# Altium integrated library PreAMP.IntLib: 21 symbols
Pins are listed as number, name and electrical type; pins without a type are passive.

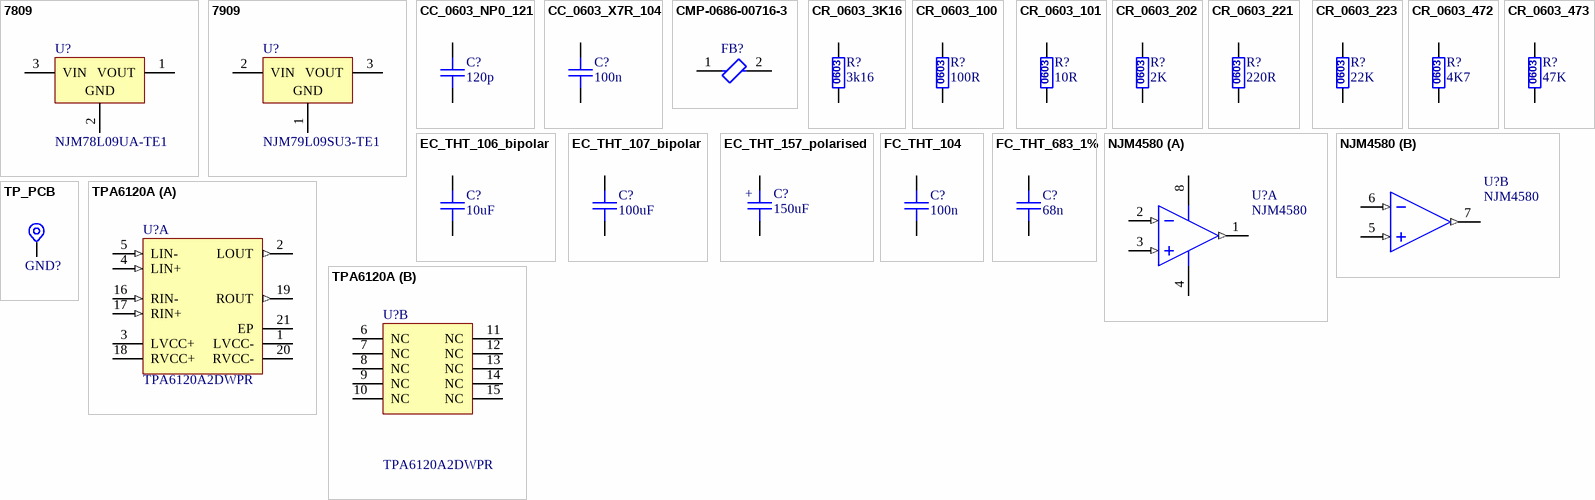
[diagram p0: symbols 7809 to TPA6120A]

## 7809
designator U?, comment NJM78L09UA-TE1
Positive Voltage Regulator, 9V, 4-Pin SOT-89, Tape and Reel; Manufacturer: Nisshinbo Micro Devices; Manufacturer Part Number: L78L12ACUTR; DatasheetVersion: 1/02/2011; PackageDescription: 3-Pin SOT-89 Package 1.5 mm Pitch, 4.1 mm Lead Span; ComponentLink2Description: Datasheet; ComponentLink1Description: Manufacturer URL; PackageVersion: 2011; PackageReference: SOT-89; ComponentLink1URL: https://www.nisshinbo-microdevices.co.jp/en/; ComponentLink2URL: https://cz.mouser.com/datasheet/2/294/NJM78L00_E-1917471.pdf
footprint SOT-89_N (SOT89, 3-Leads, Body 4.5x2.4 mm, Pitch 1.5mm, Lead Span 4.1mm, IPC Medium Density)
footprint SOT-89_M (SOT89, 3-Leads, Body 4.5x2.4 mm, Pitch 1.5mm, Lead Span 4.1mm, IPC Low Density)
footprint SOT-89_L (SOT89, 3-Leads, Body 4.5x2.4 mm, Pitch 1.5mm, Lead Span 4.1mm, IPC High Density)
pins: 1 VOUT (power), 2 GND (power), 3 VIN (power)

## 7909
designator U?, comment NJM79L09SU3-TE1
Negative Voltage Regulator, -9V, 4-Pin SOT-89, Tape and Reel; Manufacturer: Nisshinbo Micro Devices; Manufacturer Part Number: L79L12ACUTR; ComponentLink1URL: https://www.nisshinbo-microdevices.co.jp/en/; PackageVersion: 2011; PackageReference: SOT-89; ComponentLink2Description: Datasheet; PackageDescription: 3-Pin SOT-89 Package 1.5 mm Pitch, 4.1 mm Lead Span; ComponentLink1Description: Manufacturer URL; DatasheetVersion: 1/07/2009; ComponentLink2URL: https://cz.mouser.com/datasheet/2/294/NJM79L00S_E-1859990.pdf
footprint SOT-89_N (SOT89, 3-Leads, Body 4.5x2.4 mm, Pitch 1.5mm, Lead Span 4.1mm, IPC Medium Density)
footprint SOT-89_L (SOT89, 3-Leads, Body 4.5x2.4 mm, Pitch 1.5mm, Lead Span 4.1mm, IPC High Density)
footprint SOT-89_M (SOT89, 3-Leads, Body 4.5x2.4 mm, Pitch 1.5mm, Lead Span 4.1mm, IPC Low Density)
pins: 1 GND (power), 2 VIN (power), 3 VOUT (power)

## CC_0603_NP0_121
designator C?, comment 120p
Ceramic Capacitor NP0; SMD/THD: SMD; Main: Capacitors; Category: Capacitors CERA SMD; Status: A; Value: 120p; ComponentLink1Description: datasheet; Component Type: Capacitors; Supplier 1: Mouser; Supplier 2: Farnell; Supplier Part Number 2: 2581047; Supplier Part Number 1: 80-C0603C121F5G
footprint C0603 (Chip Capacitor 0603)
pins: 1, 2

## CC_0603_X7R_104
designator C?, comment 100n
Ceramic Capacitor X7R; Part Number: 100n/50V X7R C0603; SMD/THD: SMD; Main: Capacitors; Status: A; Value: 100n; Category: Capacitors CERA SMD; Manufacturer Part Number: 100n/50V X7R C0603; Component Type: Capacitors; Supplier 1: Mouser; Supplier 2: Farnell; Supplier Part Number 1: 581-06035C104K4Z2A; Supplier Part Number 2: 1833843
footprint C0603 (Chip Capacitor 0603)
pins: 1, 2

## CMP-0686-00716-3
designator FB?, comment BLM21AG121SN1D  (value not drawn)
FERRITE BEAD 120 OHM 0805 1LN; Manufacturer: Murata; Number of Lines: 1; DC Resistance-Max: 100mR; Material: Steel; Max DC Current: 200mA; Shielding: Unshielded; Test Frequency: 100MHz; Impedance: 120R; Current Rating: 800mA; Max Current Rating: 1A; Resistance: 150mR; Tolerance: 25%; Width: 1.25mm; Number of Circuits: 1; Military Standard: Not; Height: 0.85mm; Series: BLM21A; Min Operating Temperature: -55°C; DC Resistance (DCR): 100mR; Termination: SMD/SMT; Core Material: Ferrite; REACH SVHC: No SVHC; Radiation Hardening: No; Max Operating Temperature: 125°C; Number of Pins: 2; Case/Package: 0805; Case Code (Imperial): 0805; Frequency: 100MHz; Depth: 1.25mm; Length: 2mm; DC Current: 200mA; Lead Free: Lead Free; Case Code (Metric): 2012; Package Quantity: 1; Packaging: Tape and Reel; Manufacturer Part Number: BLM21AG121SN1D
footprint FP-BLM21-0_2-t0_85-e0_5-IPC_A
footprint FP-BLM21-0_2-t0_85-e0_5-MFG
footprint FP-BLM21-0_2-t0_85-e0_5-IPC_B
footprint FP-BLM21-0_2-t0_85-e0_5-IPC_C
pins: 1, 2

## CR_0603_3K16
designator R?, comment 3k16
Resistor 1%, 0.1W, 75V; SMD/THD: SMD; Main: Resistors; Status: A; Category: Resistors SMD; Component Type: Resistors; Supplier 1: Mouser; Supplier 2: Digi-Key; Supplier Part Number 2: P20027CT-ND; Supplier Part Number 1: 667-ERJ-PB3B3161V; Value: 3k16
footprint R0603 (Chip Resistor 0603)
pins: 1, 2
text: 0603

## CR_0603_100
designator R?, comment 100R
Resistor 1%, 0.1W, 75V; SMD/THD: SMD; Main: Resistors; Status: A; Category: Resistors SMD; Component Type: Resistors; Supplier 1: Mouser; Supplier 2: Farnell; Supplier 3: TME; Supplier Part Number 1: 603-RC0603FR-07100RL; Supplier Part Number 2: 9238360; Supplier Part Number 3: RC0603FR-07100R; Value: 100R
footprint R0603 (Chip Resistor 0603)
pins: 1, 2
text: 0603

## CR_0603_101
designator R?, comment 10R
Resistor 1%, 0.1W, 75V; SMD/THD: SMD; Main: Resistors; Status: A; Category: Resistors SMD; Component Type: Resistors; Supplier 1: Mouser; Supplier 2: Farnell; Supplier 3: Digi-Key; Supplier Part Number 1: 652-CR0603FX-10R0ELF; Supplier Part Number 2: 2321756; Supplier Part Number 3: CR0603-FX-10R0ELFDKR-ND; Value: 10R
footprint R0603 (Chip Resistor 0603)
pins: 1, 2
text: 0603

## CR_0603_202
designator R?, comment 2K
Resistor 1%, 0.1W, 75V; SMD/THD: SMD; Main: Resistors; Status: A; Category: Resistors SMD; Component Type: Resistors; Supplier 1: Mouser; Supplier 2: Farnell; Supplier 3: TME; Supplier Part Number 1: 603-RC0603FR-072KL; Supplier Part Number 2: 3495801; Supplier Part Number 3: RC0603FR-072K; Value: 2K
footprint R0603 (Chip Resistor 0603)
pins: 1, 2
text: 0603

## CR_0603_221
designator R?, comment 220R
Resistor 1%, 0.1W, 75V; SMD/THD: SMD; Main: Resistors; Status: A; Category: Resistors SMD; Component Type: Resistors; Supplier 1: Mouser; Supplier 2: TME; Supplier 3: Digi-Key; Supplier Part Number 1: 603-RC0603FR-07220RL; Supplier Part Number 2: RC0603FR-07220R; Supplier Part Number 3: 311-220HRCT-ND; Value: 220R
footprint R0603 (Chip Resistor 0603)
pins: 1, 2
text: 0603

## CR_0603_223
designator R?, comment 22K
Resistor 1%, 0.1W, 75V; Part Number: 22K R0603; Manufacturer: Vishay; SMD/THD: SMD; Main: Resistors; Status: A; Category: Resistors SMD; Component Type: Resistors; Supplier 1: TME; Supplier 2: Farnell; Supplier 3: Digi-Key; Value: 22K; Supplier Part Number 1: RC0603JR-0722K; Supplier Part Number 2: 9233547; Supplier Part Number 3: 311-22KGRCT-ND
footprint R0603 (Chip Resistor 0603)
pins: 1, 2
text: 0603

## CR_0603_472
designator R?, comment 4K7
Resistor 1%, 0.1W, 75V; SMD/THD: SMD; Main: Resistors; Status: A; Category: Resistors SMD; Component Type: Resistors; Supplier 1: Mouser; Supplier 2: Farnell; Supplier 3: TME; Supplier Part Number 3: RC0603FR-074K7; Supplier Part Number 2: 9238565; Supplier Part Number 1: 603-RC0603FR-074K7L; Value: 4K7
footprint R0603 (Chip Resistor 0603)
pins: 1, 2
text: 0603

## CR_0603_473
designator R?, comment 47K
Resistor 1%, 0.1W, 75V; SMD/THD: SMD; Main: Resistors; Status: A; Category: Resistors SMD; Component Type: Resistors; Supplier 1: Mouser; Supplier 2: Digi-Key; Supplier Part Number 2: YAG2129CT-ND; Supplier Part Number 1: 603-AT0603FRE0747KL; Value: 47K
footprint R0603 (Chip Resistor 0603)
pins: 1, 2
text: 0603

## EC_THT_106_bipolar
designator C?, comment 10uF
MUSE bipolar capacitor; SMD/THD: THT; Value: 10uF/35V; Main: Capacitors; Category: Capacitors THT; Status: A; Component Type: Capacitors; Supplier 1: Mouser; Supplier 2: Digi-Key; Supplier Part Number 2: 493-10846-1-ND; Supplier Part Number 1: 647-UES1V100MEM1TD
footprint UES1V
pins: 1, 2

## EC_THT_107_bipolar
designator C?, comment 100uF
MUSE bipolar capacitor; SMD/THD: THT; Value: 100uF/25V; Main: Capacitors; Category: Capacitors THT; Status: A; Component Type: Capacitors; Supplier 1: Mouser; Supplier 2: Digi-Key; Supplier Part Number 1: 647-UES1E101MPM; Supplier Part Number 2: 493-15025-ND
footprint UES1E
pins: 1, 2

## EC_THT_157_polarised
designator C?, comment 150uF
High temp hybrid capacitor -55/125C; SMD/THD: THT; Value: 150uF/35V; Main: Capacitors; Category: Capacitors THT; Status: A; Component Type: Capacitors; Supplier 1: Mouser; Supplier 2: Digi-Key; Supplier Part Number 2: 35PZE150M8X9-ND; Supplier Part Number 1: 232-35PZE150M8X9
footprint PZF8x9
pins: 1 "plus", 2
text: +

## FC_THT_104
designator C?, comment 100n
Foil Capacitor WIMA MKS 2; SMD/THD: THD; Main: Capacitors; Category: Capacitors THT; Status: A; ComponentLink1Description: datasheet; Component Type: Capacitors; Supplier 1: Mouser; Supplier Part Number 1: 505-MKS2C031001AJI00; Value: 100n
footprint WIMA_MKS_2
pins: 1, 2

## FC_THT_683_1%
designator C?, comment 68n
Foil Capacitor Vishay MKP; SMD/THD: THD; Main: Capacitors; Category: Capacitors THT; Status: A; ComponentLink1Description: datasheet; Component Type: Capacitors; Value: 68n; Supplier 1: Mouser; Supplier 2: Farnell; Supplier Part Number 2: 2528262; Supplier Part Number 1: 75-MKP1837368011
footprint VISHAY_MKP
pins: 1, 2

## NJM4580
designator U?
General Purpose Amplifier; Supplier 1: Mouser; Supplier Part Number 2: 513-NJM4580D
footprint PDIP300-P8 (8-Pin Plastic Dual In-Line Package (PDIP))
part A pins: 1 VOUT (out), 2 VIN- (in), 3 VIN+ (in), 4 VSS (power), 8 VDD (power)
part B pins: 5 VIN+2 (in), 6 VIN-2 (in), 7 VOUT2 (out)

## TP_PCB
designator GND?, comment TP  (value not drawn)  (no BOM)
Test Point; Main: Mechanical; Category: Pads_Pins_Measure_Points; Stock number: --------; Component Type: Mechanical
footprint Pad0.6mm MPoint big (Pad (neosazuje se))
footprint Pad 1mm SMD (Pad (neosazuje se))
pins: 1

## TPA6120A
designator U?, comment TPA6120A2DWPR
High Fidelity Stereo Headphone Amplifier, -40 to 85 degC, 20-pin SOP (DWP20), Green (RoHS & no Sb/Br); Manufacturer: Texas Instruments; Load(Min)(ohms): 16; PSRR(dB): 75; Special Features: Hi-Fi; Supply Min(Min)(Volt): 10; Supply Max(Max)(Volt): 30; Volume Control: Yes; ComponentLink3URL: http://www.ti.com/litv/pdf/mpds032b; ComponentLink2Description: Datasheet; PackageDescription: 20-Pin PowerPAD(TM) Plastic Small-Outline Package, Body 12.825 x 7.52 mm, Pitch 1.27 mm; Mounting Technology: Surface Mount; PackageReference: DWP0020B; DatasheetVersion: SLOS431; Headphone Channels: Stereo; ComponentLink1Description: Manufacturer URL; ComponentLink2URL: http://www.ti.com/general/docs/lit/getliterature.tsp?genericPartNumber=TPA6120A2&fileType=pdf; ComponentLink1URL: http://www.ti.com/; PartNumber: TPA6120A2DWPR; Eco-Plan: Green (RoHS & no Sb/Br); PackageVersion: 4147575/C, 02/2005; ComponentLink3Description: Package Specification; SubFamily: Headphone Amplifier; Supplier 1: Mouser; Supplier 2: Digi-Key; Supplier Part Number 1: 595-TPA6120A2DWPR; Supplier Part Number 2: 296-39339-1-ND
footprint DWP0020B_M (SOP, 20-Leads, Body 13x7.6mm, Pitch 1.27mm, Thermal Pad 2.79x3.81mm, IPC Low Density)
footprint DWP0020B_N (SOP, 20-Leads, Body 13x7.6mm, Pitch 1.27mm, Thermal Pad 2.79x3.81mm, IPC Medium Density)
part A pins: 1 LVCC- (power) "Left channel negative power supply - must be kept at the same potential as RVCC-.", 2 LOUT (out) "Left channel output", 3 LVCC+ (power) "Left channel positive power supply", 4 LIN+ (in) "Left channel positive input", 5 LIN- (in) "Left channel negative input", 16 RIN- (in) "Right channel negative input", 17 RIN+ (in) "Right channel positive input", 18 RVCC+ (power) "Right channel positive power supply", 19 ROUT (out) "Right channel output", 20 RVCC- (power) "Right channel negative power supply - must be kept at the same potential as LVCC-.", 21 EP (power) "Connect to ground. The thermal pad must be soldered down in all applications to properly secure device on the PCB."
part B pins: 6 NC "Not internally connected", 7 NC "Not internally connected", 8 NC "Not internally connected", 9 NC "Not internally connected", 10 NC "Not internally connected", 11 NC "Not internally connected", 12 NC "Not internally connected", 13 NC "Not internally connected", 14 NC "Not internally connected", 15 NC "Not internally connected"